# EAGLE library part UM232R (library UM232R)
UM232R USB - Serial UART Development Module Source: Datasheet <http://www.ftdichip.com/Support/Documents/DataSheets/Modules/DS_UM232R.pdf>
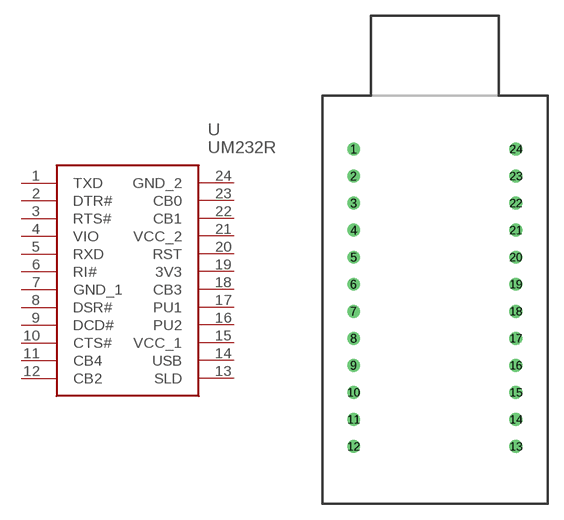
[diagram p0: symbol with the pads of UM232R_1; footprint UM232R_1]

Designator prefix U

## UM232R (Allied_Number: 70069412; Allied_Price-Stock: https://www.alliedelec.com/ftdi-um232r/70069412/; Description: UM232R USB - Serial UART Development Module; Height: mm; Manufacturer_Name: FTDI Chip; Manufacturer_Part_Number: UM232R; Mouser_Part_Number: 895-UM232R; Mouser_Price-Stock: https://www.mouser.com/Search/Refine.aspx?Keyword=895-UM232R; RS_Part_Number: 0406568; RS_Price-Stock: http://china.rs-online.com/web/p/products/0406568)  [UM232R_1]
1  TXD
2  DTR#
3  RTS#
4  VIO
5  RXD
6  RI#
7  GND_1
8  DSR#
9  DCD#
10  CTS#
11  CB4
12  CB2
13  SLD
14  USB
15  VCC_1
16  PU2
17  PU1
18  CB3
19  3V3
20  RST
21  VCC_2
22  CB1
23  CB0
24  GND_2

## Footprint UM232R_1 (pad centres in mm)
UM232R
drill 0.7 pad 1.2: 1 -7.62,-5; 2 -7.62,-7.54; 3 -7.62,-10.08; 4 -7.62,-12.62; 5 -7.62,-15.16; 6 -7.62,-17.7; 7 -7.62,-20.24; 8 -7.62,-22.78; 9 -7.62,-25.32; 10 -7.62,-27.86; 11 -7.62,-30.4; 12 -7.62,-32.94; 13 7.62,-32.94; 14 7.62,-30.4; 15 7.62,-27.86; 16 7.62,-25.32; 17 7.62,-22.78; 18 7.62,-20.24; 19 7.62,-17.7; 20 7.62,-15.16; 21 7.62,-12.62; 22 7.62,-10.08; 23 7.62,-7.54; 24 7.62,-5